# Altium schematic symbol library Diode.SchLib: 14 symbols
Pins are listed as number, name and electrical type; pins without a type are passive.

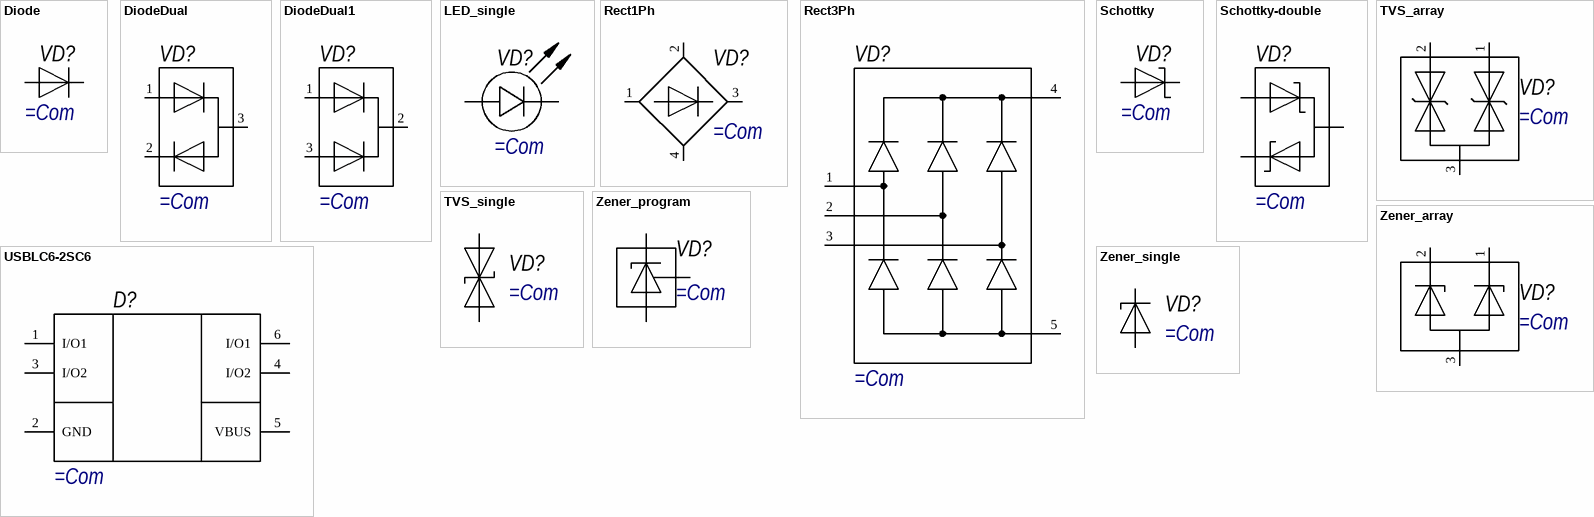
[diagram p0: symbols Diode to Zener_single]

## Diode
designator VD?
pins: 1, 2

## DiodeDual
designator VD?
pins: 1, 2, 3

## DiodeDual1
designator VD?
pins: 1, 2, 3

## LED_single
designator VD?
pins: 1 A, 2 C

## Rect1Ph
designator VD?
pins: 1, 2, 3, 4

## Rect3Ph
designator VD?
pins: 1, 2, 3, 4, 5

## Schottky
designator VD?
pins: 1, 2

## Schottky-double
designator VD?
pins: 1, 2, 3

## TVS_array
designator VD?
pins: 1, 2, 3

## TVS_single
designator VD?
pins: 1 A, 2 C

## USBLC6-2SC6
designator D?
pins: 1 I/O1, 2 GND, 3 I/O2, 4 I/O2, 5 VBUS, 6 I/O1

## Zener_array
designator VD?
pins: 1, 2, 3

## Zener_program
designator VD?
pins: 1, 2, 3

## Zener_single
designator VD?
pins: 1 A, 2 C